# Altium footprint library PCB1.PcbLib: 18 footprints (part 2 of 2)
Each footprint in its own frame and in the unit in brackets; x right, y up, seen from the top. Pads: shape width x height; smd on the part's side, far side on the other; paste and mask are expansions set on the pad; w line width, h text height; cw(c..) or ccw(c..) is an arc to the next point about the centre after c.
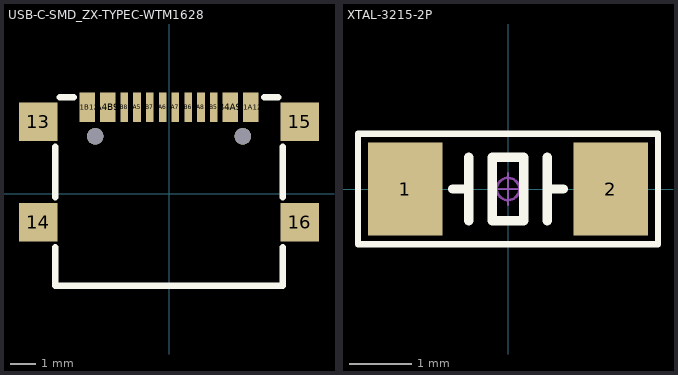
[diagram p1: the footprints below, top view; thin cyan lines are the x and y axes]

## USB-C-SMD_ZX-TYPEC-WTM1628 [mm]
pads (18):
  rect 1.5x1.5 smd paste+0 mask+0.051: 13(-5.12,2.817) 14(-5.12,-1.113) 15(5.12,2.817) 16(5.12,-1.113)
  rect 0.6x1.15 smd paste+0 mask+0.051: A1B12(-3.2,3.392) A4B9(-2.4,3.392) B1A12(3.2,3.392) B4A9(2.4,3.392)
  rect 0.3x1.15 smd paste+0 mask+0.051: A5(-1.25,3.392) A6(-0.25,3.392) A7(0.25,3.392) A8(1.25,3.392) B5(1.75,3.392) B6(0.75,3.392) B7(-0.75,3.392) B8(-1.75,3.392)
  round 0.65 hole 0.65 unplated paste+0: ""(-2.89,2.249) ""(2.89,2.249)
Top Overlay:
  lines w0.254: -4.445,-2.094 -4.445,-3.593 4.455,-3.593 4.455,-2.094 ; -4.445,-0.132 -4.445,1.836 ; -4.268,3.773 -3.731,3.773 ; 3.731,3.773 4.268,3.773 ; 4.455,-0.132 4.455,1.836

## XTAL-3215-2P [mm]
pads (2):
  rect 1.2x1.5 smd: 1(-1.65,0) 2(1.65,0)
Top Overlay:
  lines w0.1: -2.413,-0.889 -2.413,0.889 2.413,0.889 2.413,-0.889 -2.413,-0.889
  lines w0.152: -0.889,0 -0.635,0 ; -0.635,-0.508 -0.635,0.508 ; 0.635,-0.508 0.635,0.508 ; 0.635,0 0.889,0 ; -0.254,-0.508 0.254,-0.508 0.254,0.508 -0.254,0.508 -0.254,-0.508
Mechanical 15:
  circle w0.04: c0,0 r0.18
  lines w0.04: -0.254,0 0.254,0 ; 0,-0.254 0,0.254
3D body "OSC_3215-2.STEP": height 0.61, standoff -0.01, extent -1.6,-0.75 1.6,0.75